# Altium footprint library lib.PcbLib: 22 footprints (part 2 of 2)
Each footprint in its own frame and in the unit in brackets; x right, y up, seen from the top. Pads: shape width x height; smd on the part's side, far side on the other; paste and mask are expansions set on the pad; w line width, h text height; cw(c..) or ccw(c..) is an arc to the next point about the centre after c.
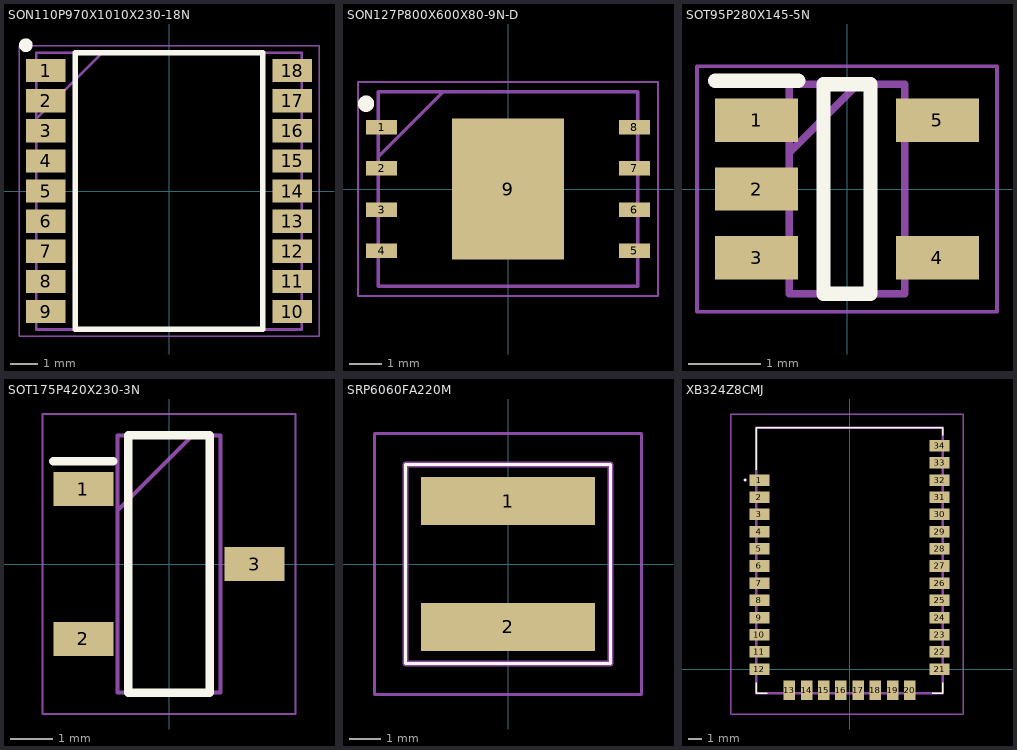
[diagram p1: the footprints below, top view; thin cyan lines are the x and y axes]

## SON110P970X1010X230-18N [mm]
pads (18):
  rect 1.45x0.85 smd: 1(-4.5,4.4) 2(-4.5,3.3) 3(-4.5,2.2) 4(-4.5,1.1) 5(-4.5,0) 6(-4.5,-1.1) 7(-4.5,-2.2) 8(-4.5,-3.3) 9(-4.5,-4.4) 10(4.5,-4.4) 11(4.5,-3.3) 12(4.5,-2.2) 13(4.5,-1.1) 14(4.5,0) 15(4.5,1.1) 16(4.5,2.2) 17(4.5,3.3) 18(4.5,4.4)
F.SilkS:
  circle w0.25: c-5.225,5.325 r0.125
  lines w0.2: -3.425,-5.05 3.425,-5.05 3.425,5.05 -3.425,5.05 -3.425,-5.05
F.CrtYd:
  lines w0.05: -5.475,-5.3 5.475,-5.3 5.475,5.3 -5.475,5.3 -5.475,-5.3
F.Fab:
  lines w0.1: -4.85,2.625 -2.425,5.05 ; -4.85,-5.05 4.85,-5.05 4.85,5.05 -4.85,5.05 -4.85,-5.05
  text "'.Designator'" at -1.826,-0.506 h1.27

## SON127P800X600X80-9N-D [mm]
pads (9):
  rect 0.95x0.45 smd: 1(-3.9,1.905) 2(-3.9,0.635) 3(-3.9,-0.635) 4(-3.9,-1.905) 5(3.9,-1.905) 6(3.9,-0.635) 7(3.9,0.635) 8(3.9,1.905)
  rect 3.45x4.35 smd: 9(0,0)
F.SilkS:
  circle w0.25: c-4.375,2.63 r0.125
F.CrtYd:
  lines w0.05: -4.625,-3.3 4.625,-3.3 4.625,3.3 -4.625,3.3 -4.625,-3.3
F.Fab:
  lines w0.1: -4,1 -2,3 ; -4,-3 4,-3 4,3 -4,3 -4,-3
  text "'.Designator'" at -1.826,-0.506 h1.27

## SOT95P280X145-5N [mm]
pads (5):
  rect 1.15x0.6 smd: 1(-1.25,0.95) 2(-1.25,0) 3(-1.25,-0.95) 4(1.25,-0.95) 5(1.25,0.95)
F.SilkS:
  lines w0.2: -1.825,1.5 -0.675,1.5 ; -0.325,-1.45 0.325,-1.45 0.325,1.45 -0.325,1.45 -0.325,-1.45
F.CrtYd:
  lines w0.05: -2.075,-1.7 2.075,-1.7 2.075,1.7 -2.075,1.7 -2.075,-1.7
F.Fab:
  lines w0.1: -0.8,0.5 0.15,1.45 ; -0.8,-1.45 0.8,-1.45 0.8,1.45 -0.8,1.45 -0.8,-1.45
  text "'.Designator'" at -1.826,-0.506 h1.27

## SOT175P420X230-3N [mm]
pads (3):
  rect 1.4x0.8 smd: 1(-2,1.75) 2(-2,-1.75) 3(2,0)
F.SilkS:
  lines w0.2: -2.7,2.4 -1.3,2.4 ; -0.95,-3 0.95,-3 0.95,3 -0.95,3 -0.95,-3
F.CrtYd:
  lines w0.05: -2.95,-3.5 2.95,-3.5 2.95,3.5 -2.95,3.5 -2.95,-3.5
F.Fab:
  lines w0.1: -1.2,1.25 0.55,3 ; -1.2,-3 1.2,-3 1.2,3 -1.2,3 -1.2,-3
  text "'.Designator'" at -1.826,-0.506 h1.27

## SRP6060FA220M [mm]
pads (2):
  rect 5.6x1.55 smd: 1(0,2.025) 2(0,-2.025)
F.SilkS:
  lines w0.1: -3.3,-3.2 3.3,-3.2 3.3,3.2 -3.3,3.2 -3.3,-3.2
F.CrtYd:
  lines w0.1: -4.3,-4.2 4.3,-4.2 4.3,4.2 -4.3,4.2 -4.3,-4.2
F.Fab:
  lines w0.2: -3.3,-3.2 3.3,-3.2 3.3,3.2 -3.3,3.2 -3.3,-3.2
  text "'.Designator'" at -1.826,-0.506 h1.27

## XB324Z8CMJ [mm]
pads (34):
  rect 1.448x0.838 smd: 1(-6.553,13.75) 2(-6.553,12.5) 3(-6.553,11.25) 4(-6.553,10) 5(-6.553,8.75) 6(-6.553,7.5) 7(-6.553,6.25) 8(-6.553,5) 9(-6.553,3.75) 10(-6.553,2.5) 11(-6.553,1.25) 12(-6.553,0) 21(6.553,0) 22(6.553,1.25) 23(6.553,2.5) 24(6.553,3.75) 25(6.553,5) 26(6.553,6.25) 27(6.553,7.5) 28(6.553,8.75) 29(6.553,10) 30(6.553,11.25) 31(6.553,12.5) 32(6.553,13.75) 33(6.553,15) 34(6.553,16.25)
  rect 0.838x1.448 smd: 13(-4.375,-1.537) 14(-3.125,-1.537) 15(-1.875,-1.537) 16(-0.625,-1.537) 17(0.625,-1.537) 18(1.875,-1.537) 19(3.125,-1.537) 20(4.375,-1.537)
F.SilkS:
  lines w0.1: -6.782,-1 -6.782,-1.753 -6,-1.753 ; -6.782,14.497 -6.782,17.551 6.782,17.551 6.782,16.997 ; 6,-1.753 6.782,-1.753 6.782,-1 ; -7.6,13.7 ccw(c-7.6,13.75) -7.6,13.8 ccw(c-7.6,13.75) -7.6,13.7
F.CrtYd:
  lines w0.1: -8.65,-3.261 8.277,-3.261 8.277,18.551 -8.65,18.551 -8.65,-3.261
F.Fab:
  lines w0.2: -6.782,-1.753 6.782,-1.753 6.782,17.551 -6.782,17.551 -6.782,-1.753
  text "'.Designator'" at -2.012,7.139 h1.27